# EAGLE library part C8051F300 (library micro-silabs)
25MIPS 8051 core microcontroller
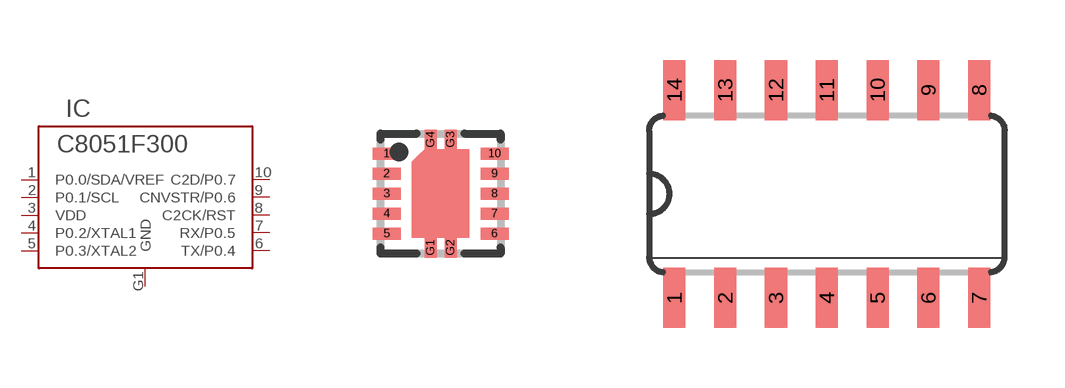
[diagram p34: symbol with the pads of MLP11; footprints MLP11, SOIC14]

Designator prefix IC

## C8051F300GM  [MLP11]
1  P0.0/SDA/VREF
2  P0.1/SCL
3  VDD  pwr
4  P0.2/XTAL1
5  P0.3/XTAL2
6  TX/P0.4
7  RX/P0.5
8  C2CK/RST
9  CNVSTR/P0.6
10  C2D/P0.7
G1  GND  pwr

## C8051F300GS  [SOIC14]
1  CNVSTR/P0.6
2  C2D/P0.7
3  GND  pwr
5  P0.0/SDA/VREF
6  P0.1/SCL
7  VDD  pwr
8  P0.2/XTAL1
10  P0.3/XTAL2
12  TX/P0.4
13  RX/P0.5
14  C2CK/RST

## Footprint MLP11 (pad centres in mm)
Cygnal MLP11
smd 0.7 x 0.3: 1 -1.35,1; 2 -1.35,0.5; 3 -1.35,0; 4 -1.35,-0.5; 5 -1.35,-1; 6 1.35,-1; 7 1.35,-0.5; 8 1.35,0; 9 1.35,0.5; 10 1.35,1
smd 0.3 x 0.5: G1 -0.25,-1.35; G2 0.25,-1.35; G3 0.25,1.35; G4 -0.25,1.35

## Footprint SOIC14 (pad centres in mm)
Small outline package
smd 0.55 x 1.5: 1 -7.303,-5.772; 2 -6.032,-5.772; 3 -4.763,-5.772; 4 -3.493,-5.772; 5 -2.223,-5.772; 6 -0.953,-5.772; 7 0.318,-5.772; 8 0.318,-0.578; 9 -0.953,-0.578; 10 -2.223,-0.578; 11 -3.493,-0.578; 12 -4.763,-0.578; 13 -6.032,-0.578; 14 -7.303,-0.578